# EAGLE library part 691307400003 (library Wurth_Terminal_Blocks_Connectors_rev15d)
WR - TBL Serie 3074 - 7.62mm Reversed Gender Vertical PCB Header , 3 pins=>Code : WR-TBL_3074_691307400003 <http://katalog.we-online.de/media/images/eican/WR-TBL_3074_691307400003_pf2.jpg> Details see: http://katalog.we-online.de/en/em/691_307_400_0xx Created 2014-06-25, Karrer Zheng 2014 (C) Würth Elektronik
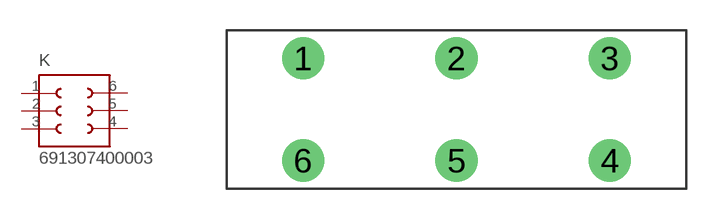
[diagram p191: symbol with the pads of 691307400003; footprint 691307400003]

Designator prefix K

## 691307400003  [691307400003]
1  1  pas
2  2  pas
3  3  pas
4  4  pas
5  5  pas
6  6  pas

## Footprint 691307400003 (pad centres in mm)
WR - TBL Serie 3074 - 7.62mm Reversed Gender Vertical PCB Header , 3 pins
drill 1.4: 1 -7.62,0; 2 0,0; 3 7.62,0; 4 7.62,-5.08; 5 0,-5.08; 6 -7.62,-5.08